# EAGLE library part MCP2515-E_ST (library MCP2515-e_ST)
CAN controller with SPI, 125 degC Source: Datasheet <https://datasheet.datasheetarchive.com/originals/distributors/SFDatasheet-4/sf-00090060.pdf>
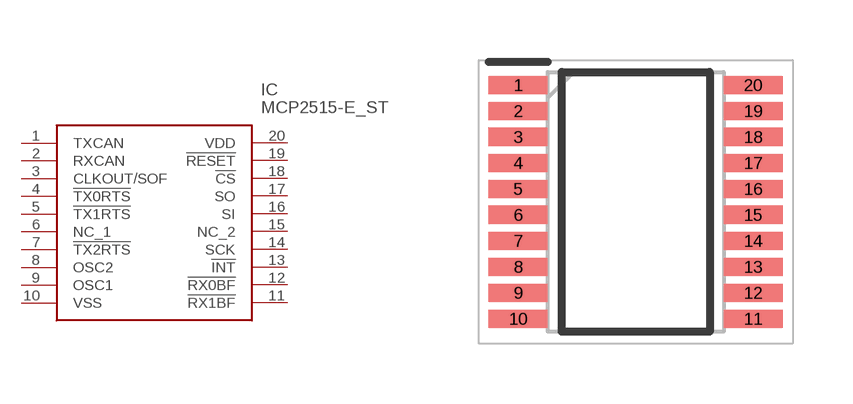
[diagram p0: symbol with the pads of SOP65P640X120-20N; footprint SOP65P640X120-20N]

Designator prefix IC

## MCP2515-E_ST (Description: CAN controller with SPI, 125 degC; Height: 1.2mm; Manufacturer_Name: Microchip; Manufacturer_Part_Number: MCP2515-e/ST; Mouser_Part_Number: 579-MCP2515-E/ST; Mouser_Price-Stock: https://www.mouser.co.uk/ProductDetail/Microchip-Technology/MCP2515-E-ST?qs=y1t9dHv1DsIvDWDHTyyG6w%3D%3D)  [SOP65P640X120-20N]
1  TXCAN
2  RXCAN
3  CLKOUT/SOF
4  !TX0RTS
5  !TX1RTS
6  NC_1
7  !TX2RTS
8  OSC2
9  OSC1
10  VSS
11  !RX1BF
12  !RX0BF
13  !INT
14  SCK
15  NC_2
16  SI
17  SO
18  !CS
19  !RESET
20  VDD

## Footprint SOP65P640X120-20N (pad centres in mm)
TSSOP_20
smd 1.475 x 0.45: 1 -2.938,2.925; 2 -2.938,2.275; 3 -2.938,1.625; 4 -2.938,0.975; 5 -2.938,0.325; 6 -2.938,-0.325; 7 -2.938,-0.975; 8 -2.938,-1.625; 9 -2.938,-2.275; 10 -2.938,-2.925; 11 2.938,-2.925; 12 2.938,-2.275; 13 2.938,-1.625; 14 2.938,-0.975; 15 2.938,-0.325; 16 2.938,0.325; 17 2.938,0.975; 18 2.938,1.625; 19 2.938,2.275; 20 2.938,2.925